# EAGLE library part SN74LVC1T45 (library DAC)
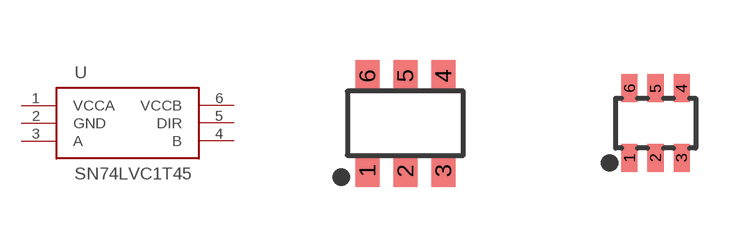
[diagram p47: symbol with the pads of TI-DBV-6; footprints TI-DBV-6, TI-DCK-6]

Designator prefix U

## SN74LVC1T45DBV  [TI-DBV-6]
1  VCCA  pwr
2  GND  sup
3  A
4  B
5  DIR  in
6  VCCB  pwr

## SN74LVC1T45DCK  [TI-DCK-6]
Pads as for TI-DBV-6

## Footprint TI-DBV-6 (pad centres in mm)
smd 0.6 x 0.8: 1 -0.95,-1.188; 2 0,-1.188; 3 0.95,-1.188; 4 0.95,1.188; 5 0,1.188; 6 -0.95,1.188

## Footprint TI-DCK-6 (pad centres in mm)
smd 0.4 x 0.7: 1 -0.65,-0.87; 2 0,-0.87; 3 0.65,-0.87; 4 0.65,0.87; 5 0,0.87; 6 -0.65,0.87